# Altium integrated library 0402CS-5N6XJLU.IntLib: 1 symbol
Pins are listed as number, name and electrical type; pins without a type are passive.

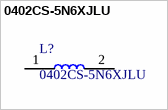
[diagram p0: symbol 0402CS-5N6XJLU]

## 0402CS-5N6XJLU
designator L?
/ RF inductor, ceramic core, 5% tol, SMT, RoHS /; MF: Coilcraft; Package: 0402 Coilcraft; Price: None; SnapEDA_Link: https://www.snapeda.com/parts/0402CS-5N6XJLU/Coilcraft/view-part/?ref=snap; MP: 0402CS-5N6XJLU; Availability: Unavailable; Value: *
footprint *IND_0402HL-821XJRU
pins: 1, 2